# EAGLE library part MEMB-SMD (library Mylib)
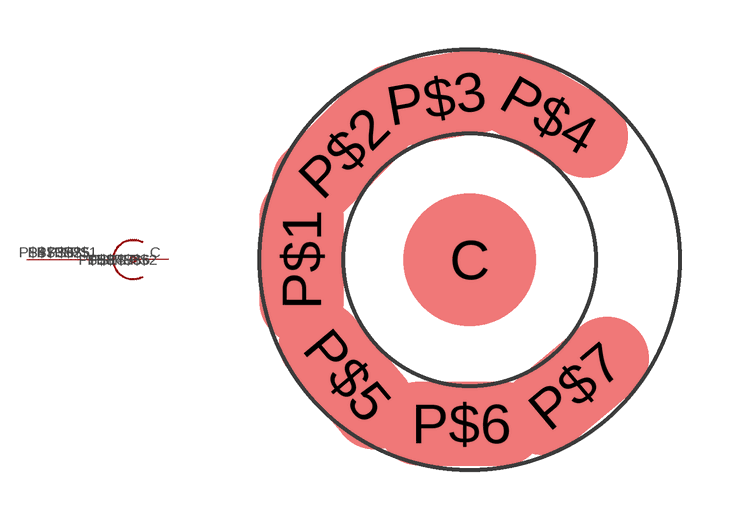
[diagram p0: symbol with the pads of MEMB-SMD; footprint MEMB-SMD]

Designator prefix -

## MEMB-SMD  [MEMB-SMD]
C  P$1
P$1  P$2
P$2  P$3
P$3  P$4
P$4  P$5
P$5  P$6
P$6  P$7
P$7  P$8

## Footprint MEMB-SMD (pad centres in mm)
smd 4 x 4: C 0,0
smd 2.54 x 5.08: P$1 -5.08,0
smd 5.08 x 2.54 rotated 45: P$2 -3.81,3.239
smd 5.08 x 2.54 rotated 10: P$3 -1.016,4.889
smd 5.08 x 2.54 rotated 330: P$4 2.413,4.381
smd 5.08 x 2.54 rotated 310: P$5 -3.683,-3.493
smd 5.08 x 2.54: P$6 -0.254,-4.953
smd 5.08 x 2.54 rotated 40: P$7 3.175,-3.81